# Altium footprint library MR60PW-M.PcbLib: 1 footprints
Each footprint in its own frame and in the unit in brackets; x right, y up, seen from the top. Pads: shape width x height; smd on the part's side, far side on the other; paste and mask are expansions set on the pad; w line width, h text height; cw(c..) or ccw(c..) is an arc to the next point about the centre after c.
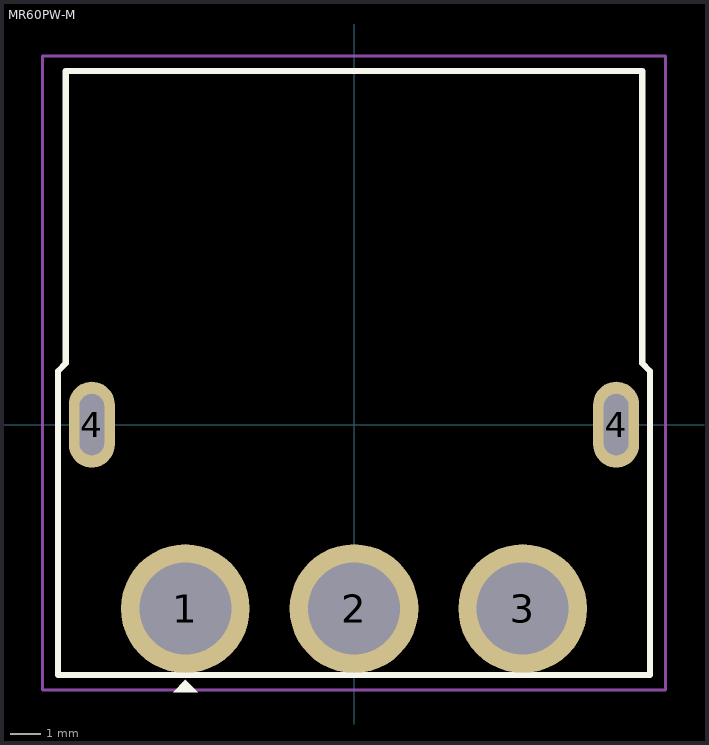
[diagram p0: the footprint, top view; thin cyan lines are the x and y axes]

## MR60PW-M [mm]
pads (5):
  round 4.2 hole 3: 1(-5.5,-6) 2(0,-6) 3(5.5,-6)
  rrect100% 1.5x2.8 hole 2 slot 0.8 at 0 deg: 4(-8.55,0) 4(8.55,0)
Top Overlay:
  region: -5.1,-8.725 -5.9,-8.725 -5.5,-8.325
  lines w0.2: -9.652,-8.159 9.652,-8.159 9.652,1.747 9.398,2.001 9.398,11.526 -9.398,11.526 -9.398,2.001 -9.652,1.747 -9.652,-8.159
Mechanical 1:
  circle w0.025: c-5.5,-6 r1.5
  circle w0.025: c0,-6 r1.5
  circle w0.025: c5.5,-6 r1.5
Top Courtyard:
  lines w0.1: -10.152,-8.659 -10.152,12.026 10.152,12.026 10.152,-8.659 -9.652,-8.659 -10.152,-8.659
3D body "MR60PW-M.STEP": height 8.52, standoff -2.93, extent -9.6,-8.15 9.6,11.35